# Altium schematic symbol library BiciMaps_3.SchLib: 26 symbols
Pins are listed as number, name and electrical type; pins without a type are passive.

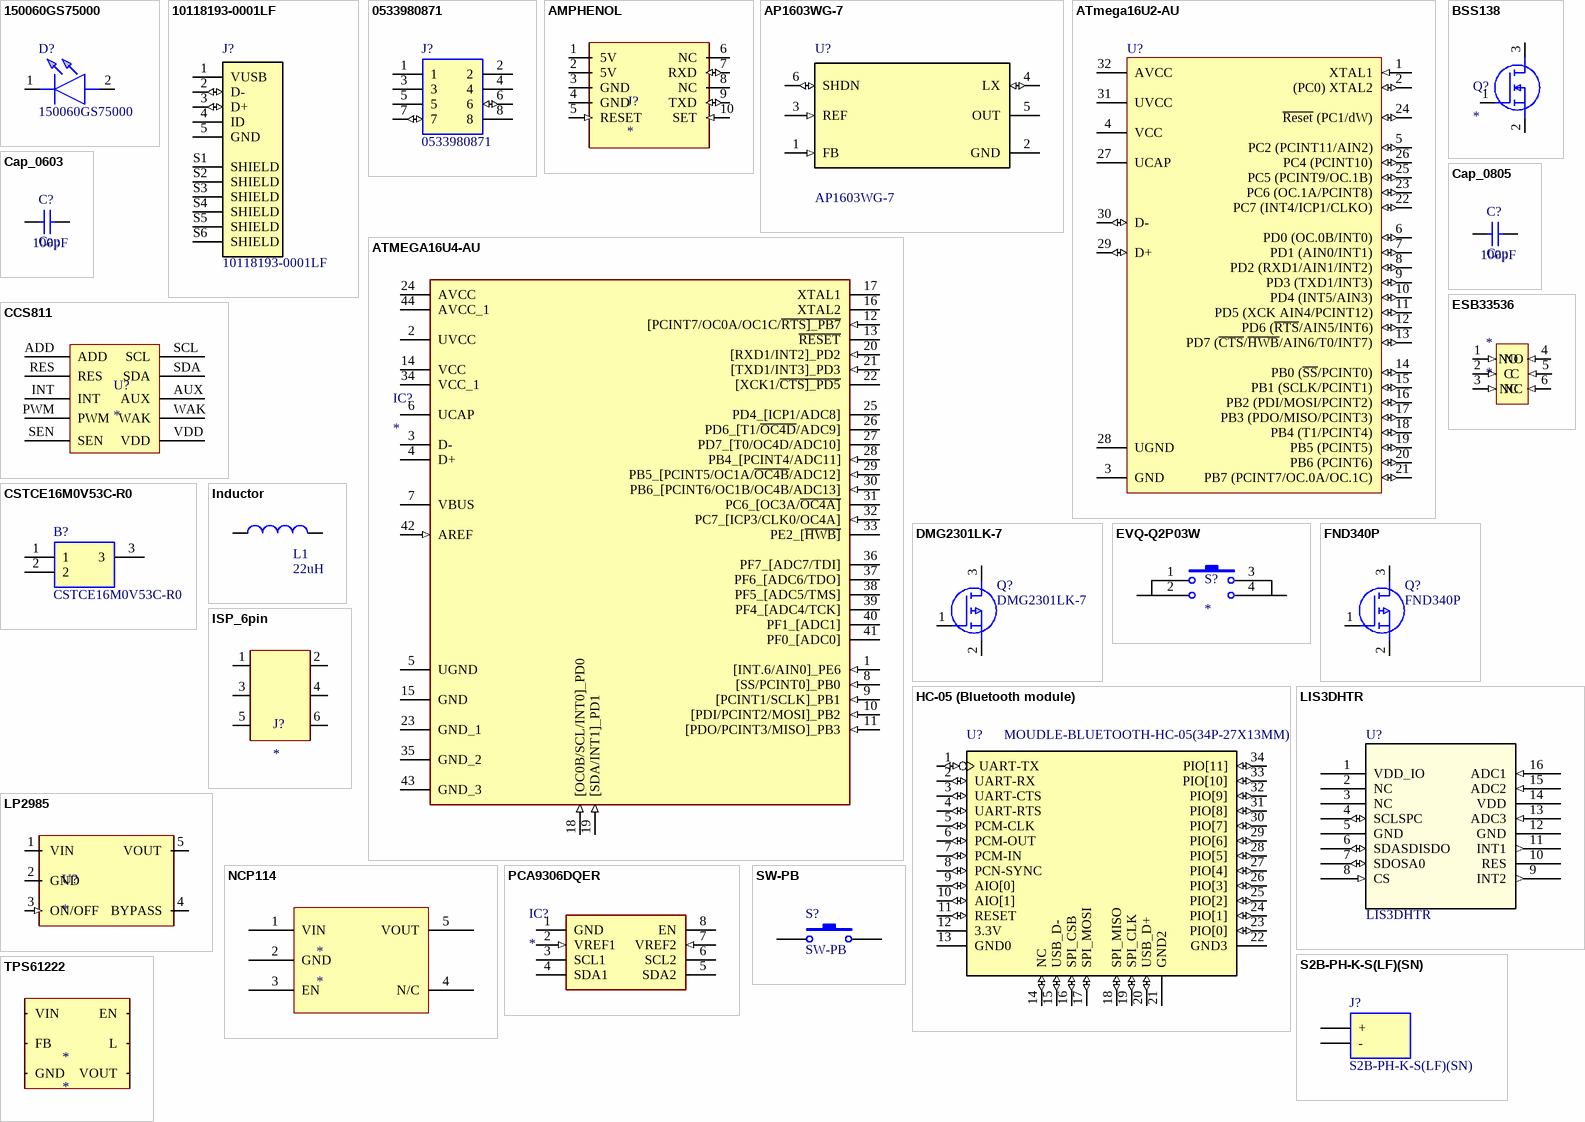
[diagram p0: symbols 150060GS75000 to TPS61222]

## 150060GS75000
designator D?
Wurth Elektronik WL-SMCW 520 nm Green LED, 1608 (0603) Clear SMD package; Geometry.Height: 0.8mm; Manufacturer_Name: Wurth Elektronik; Manufacturer_Part_Number: 150060GS75000; RS Part Number: 8154209P; RS Price/Stock: http://uk.rs-online.com/web/p/products/8154209P; Arrow Part Number: 150060GS75000; Arrow Price/Stock: http://uk.rs-online.com/web/p/products/8154209P; Datasheet Link: https://componentsearchengine.com/Datasheets/2/150060GS75000.pdf
footprint LEDC1608X80N
pins: 1 K, 2 A

## 10118193-0001LF
designator J?
Single Port 5 Contact Shielded SMT MICRO USB B-Type Receptacle; MF: Amphenol FCI; Availability: Unavailable; Package: None; Price: None; SnapEDA_Link: https://www.snapeda.com/parts/10118193-0001LF/Amphenol%20FCI/view-part/?ref=snap; MP: 10118193-0001LF; Value: *
footprint FCI_10118193-0001LF_10118193-0001LF(Primary)
pins: 1 VUSB, 2 D- (io), 3 D+ (io), 4 ID, 5 GND (power), S1 SHIELD, S2 SHIELD, S3 SHIELD, S4 SHIELD, S5 SHIELD, S6 SHIELD

## 0533980871
designator J?
CONN HEADER 8POS 1.25MM VERT SMD; Manufacturer_Name: Molex; Manufacturer_Part_Number: 0533980871; RS Part Number: *; RS Price/Stock: *; Arrow Part Number: 0533980871; Arrow Price/Stock: https://www.arrow.com/en/products/0533980871/molex; Datasheet Link: https://www.molex.com/pdm_docs/sd/533980871_sd.pdf
footprint 53398-0871
pins: 1, 2 (power), 3, 4, 5, 6 (io), 7 (io), 8 (power)

## AMPHENOL
designator J?
footprint AMPHENOL CONECTOR - duplicate
footprint PM SENSOR
pins: 1 5V (power), 2 5V (power), 3 GND (power), 4 GND (power), 5 RESET (in), 6 NC, 7 RXD (io), 8 NC, 9 TXD (io), 10 SET (in)

## AP1603WG-7
designator U?
Voltage regulator; PMIC; 0.2A; SOT26; SMD; boost; -40Ã·85Â°C; 150kHz; MF: Diodes Inc.; Package: SOT-23-6 Diodes Inc.; MP: AP1603WG-7; Digi-Key_Purchase_URL: https://www.digikey.es/product-detail/en/diodes-incorporated/AP1603WG-7/AP1603WG-7DICT-ND/8545962?utm_source=snapeda&utm_medium=aggregator&utm_campaign=symbol; Digi-Key_Part_Number: AP1603WG-7DICT-ND; SnapEDA_Link: https://www.snapeda.com/parts/AP1603WG-7/Diodes%20Inc./view-part/?ref=snap; Value: *
footprint SOT95P280X145-6N
pins: 1 FB (in), 2 GND (power), 3 REF (in), 4 LX (io), 5 OUT (power), 6 SHDN (io)

## ATmega16U2-AU
designator U?
8-bit AVR Microcontroller, 2.7-5.5V, 16KB Flash, 512 Bytes EEPROM, 512 Bytes SRAM, 32-pin TQFP, Industrial Grade (-40°C to 85°C); Published: 1-Apr-2010; DatasheetVersion: revC, Dec-2009; PackageVersion: revB, Oct-2001; PackageReference: 32A; Publisher: Altium Limited; PackageDescription: 32-Lead, 7x7x1.0 mm Body, 0.8mm Lead Pitch, Thin Profile Plastic Quad Flat Package (TQFP); Supplier 1: Digi-Key; Supplier Part Number 1: ATMEGA16U2-AU-ND; Supplier 2: Mouser; Supplier Part Number 2: 556-ATMEGA16U2-AU; Code_JEDEC: MS-026-ABA; ComponentLink1Description: Manufacturer Link; ComponentLink1URL: http://www.atmel.com/products/avr/default.asp?; ComponentLink2Description: ATmega8U2/16U2/32U2 Datasheet; ComponentLink2URL: http://www.atmel.com/dyn/resources/prod_documents/doc7799.pdf; ComponentLink3Description: ATmega8U2/16U2/32U2 Summary; ComponentLink3URL: http://www.atmel.com/dyn/resources/prod_documents/7799S.pdf; ComponentLink4Description: Atmel.com Home; ComponentLink4URL: http://www.atmel.com
footprint 32A_N (Thin QFP, 32-Leads, Body 7x7mm, Pitch 0.8mm, IPC Medium Density)
footprint 32A_L (Thin QFP, 32-Leads, Body 7x7mm, Pitch 0.8mm, IPC High Density)
footprint 32A_M (Thin QFP, 32-Leads, Body 7x7mm, Pitch 0.8mm, IPC Low Density)
footprint 32A_N_MEGA (Thin QFP, 32-Leads, Body 7x7mm, Pitch 0.8mm, IPC Medium Density)
pins: 1 XTAL1 (in), 2 (PC0) XTAL2 (io), 3 GND (power), 4 VCC (power), 5 PC2 (PCINT11/AIN2) (io), 6 PD0 (OC.0B/INT0) (io), 7 PD1 (AIN0/INT1) (io), 8 PD2 (RXD1/AIN1/INT2) (io), 9 PD3 (TXD1/INT3) (io), 10 PD4 (INT5/AIN3) (io), 11 PD5 (XCK AIN4/PCINT12) (io), 12 PD6 (~{RTS}/AIN5/INT6) (io), 13 PD7 (~{CTS}/~{HWB}/AIN6/T0/INT7) (io), 14 PB0 (~{SS}/PCINT0) (io), 15 PB1 (SCLK/PCINT1) (io), 16 PB2 (PDI/MOSI/PCINT2) (io), 17 PB3 (PDO/MISO/PCINT3) (io), 18 PB4 (T1/PCINT4) (io), 19 PB5 (PCINT5) (io), 20 PB6 (PCINT6) (io), 21 PB7 (PCINT7/OC.0A/OC.1C) (io), 22 PC7 (INT4/ICP1/CLKO) (io), 23 PC6 (OC.1A/PCINT8) (io), 24 ~{Reset} (PC1/dW) (io), 25 PC5 (PCINT9/OC.1B) (io), 26 PC4 (PCINT10) (io), 27 UCAP (power), 28 UGND (power), 29 D+ (io), 30 D- (io), 31 UVCC (power), 32 AVCC (power)

## ATMEGA16U4-AU
designator IC?
Integrated Circuit; Manufacturer_Name: Microchip; Manufacturer_Part_Number: ATMEGA16U4-AU; Datasheet Link: http://www.atmel.com/images/atmel-7766-8-bit-avr-atmega16u4-32u4_summary.pdf; Height: 1.2mm
footprint ATMEGA 16U4
pins: 1 [INT.6/AIN0]_PE6 (in), 2 UVCC (power), 3 D-, 4 D+, 5 UGND (power), 6 UCAP, 7 VBUS, 8 [SS/PCINT0]_PB0 (in), 9 [PCINT1/SCLK]_PB1 (in), 10 [PDI/PCINT2/MOSI]_PB2 (in), 11 [PDO/PCINT3/MISO]_PB3 (in), 12 [PCINT7/OC0A/OC1C/~{RTS]_PB7} (in), 13 ~{RESET}, 14 VCC (power), 15 GND (power), 16 XTAL2, 17 XTAL1, 18 [OC0B/SCL/INT0]_PD0 (in), 19 [SDA/INT1]_PD1 (in), 20 [RXD1/INT2]_PD2 (in), 21 [TXD1/INT3]_PD3 (in), 22 [XCK1/~{CTS]_PD5}, 23 GND_1 (power), 24 AVCC (power), 25 PD4_[ICP1/ADC8], 26 PD6_[T1/~{OC4D}/ADC9], 27 PD7_[T0/OC4D/ADC10], 28 PB4_[PCINT4/ADC11] (in), 29 PB5_[PCINT5/OC1A/~{OC4B}/ADC12] (in), 30 PB6_[PCINT6/OC1B/OC4B/ADC13] (in), 31 PC6_[OC3A/~{OC4A]}, 32 PC7_[ICP3/CLK0/OC4A] (in), 33 PE2_[~{HWB]}, 34 VCC_1 (power), 35 GND_2 (power), 36 PF7_[ADC7/TDI], 37 PF6_[ADC6/TDO], 38 PF5_[ADC5/TMS], 39 PF4_[ADC4/TCK], 40 PF1_[ADC1], 41 PF0_[ADC0], 42 AREF (in), 43 GND_3 (power), 44 AVCC_1 (power)

## BSS138
designator Q?
MOSFET (N-Channel); Manufacturer_Name: ON Semiconductor; Manufacturer_Part_Number: BSS138; Datasheet Link: https://www.onsemi.com/pub/Collateral/BSS138-D.PDF; Height: 1.2mm; Mouser Part Number: 512-BSS138; Mouser Price/Stock: https://www.mouser.com/Search/Refine.aspx?Keyword=512-BSS138; RS Part Number: 6710324P; RS Price/Stock: http://uk.rs-online.com/web/p/products/6710324P
footprint SOT96P240X110-3N
pins: 1 G, 2 S, 3 D

## Cap_0603
designator C?, comment Cap  value 100pF
Capacitor; Published: 8-Jun-2000; LatestRevisionDate: 17-Jul-2002; LatestRevisionNote: Re-released for DXP Platform.; PackageReference: RAD-0.3; Publisher: Altium Limited; PackageDescription: Radial Cap, Thru-Hole; 2 Leads; 0.3 in Pin Spacing
simulation model CAP (Capacitor)
signal-integrity model Cap
footprint J1-0603 (Footprint not found)
pins: 1, 2

## Cap_0805
designator C?, comment Cap  value 100pF
Capacitor; Published: 8-Jun-2000; LatestRevisionDate: 17-Jul-2002; LatestRevisionNote: Re-released for DXP Platform.; PackageReference: RAD-0.3; Publisher: Altium Limited; PackageDescription: Radial Cap, Thru-Hole; 2 Leads; 0.3 in Pin Spacing
simulation model CAP (Capacitor)
signal-integrity model Cap
footprint C0805 (Footprint not found)
pins: 1, 2

## CCS811
designator U?
footprint CCS811 (CCS811 IAQ measurer)
pins: ADD, AUX, INT, PWM, RES, SCL, SDA, SEN, VDD, WAK

## CSTCE16M0V53C-R0
designator B?
SMD Ceramic Resonator 16 MHz 15PF CSTCE16M0V53C-R0, Ceramic Resonator, 16MHz Expander 15pF, 4-Pin, 3.2 x 1.3 x 0.9mm; Manufacturer_Name: Murata Electronics; Geometry.Height: 1mm; Mouser Part Number: 81-CSTCE16M0V53C-R0; Manufacturer_Part_Number: CSTCE16M0V53C-R0; Datasheet Link: https://componentsearchengine.com/Datasheets/1/CSTCE16M0V53C-R0.pdf
footprint CSTCE16M0V53CR0
pins: 1, 2 (power), 3

## DMG2301LK-7
designator Q?
MOSFET MOSFET BVDSS: 8V-24V; Manufacturer_Name: Diodes Inc.; Geometry.Height: 1.1mm; Manufacturer_Part_Number: DMG2301LK-7; RS Part Number: *; RS Price/Stock: *; Arrow Part Number: DMG2301LK-7; Arrow Price/Stock: https://www.arrow.com/en/products/dmg2301lk-7/diodes-incorporated; Datasheet Link: https://componentsearchengine.com/Datasheets/1/DMG2301LK-7.pdf
footprint SOT96P240X110-3N
pins: 1 G, 2 S, 3 D

## ESB33536
designator *
footprint ESB33_pushbutton
pins: 1 NO (in), 2 C (in), 3 NC (in), 4 NO (in), 5 C (in), 6 NC (in)

## EVQ-Q2P03W
designator S?
Tactile 3.1 heigth; Manufacturer_Part_Number: EVQP2602W; Vendor: Panasonic; Built_By: EMA_UL_Team; C: Copyright (C) 2015 Accelerated Designs. All rights reserved; RefDes: RefDes; Type: DEV; Value: Value
footprint EVQ-Q2P03W
pins: 1, 2 1, 3, 4

## FND340P
designator Q?
MOSFET MOSFET BVDSS: 8V-24V; Manufacturer_Name: Diodes Inc.; Manufacturer_Part_Number: DMG2301LK-7; Geometry.Height: 1.1mm; RS Part Number: *; RS Price/Stock: *; Arrow Part Number: DMG2301LK-7; Arrow Price/Stock: https://www.arrow.com/en/products/dmg2301lk-7/diodes-incorporated; Datasheet Link: https://componentsearchengine.com/Datasheets/1/DMG2301LK-7.pdf
footprint SOT-23
pins: 1 G, 2 S, 3 D

## HC-05 (Bluetooth module)
designator U?, comment MOUDLE-BLUETOOTH-HC-05(34P-27X13MM)
Modulo bluetooth, 34 pin; MF: Texas Instruments; MP: HC05; Package: None; Availability: Unavailable; Price: None; SnapEDA_Link: https://www.snapeda.com/parts/HC05/Texas%20Instruments/view-part/?ref=snap; Value: *
footprint HC-05
pins: 1 UART-TX (io), 2 UART-RX (io), 3 UART-CTS (io), 4 UART-RTS (io), 5 PCM-CLK (io), 6 PCM-OUT (io), 7 PCM-IN (io), 8 PCN-SYNC (io), 9 AIO[0] (io), 10 AIO[1] (io), 11 RESET (io), 12 3.3V (power), 13 GND0 (power), 14 NC (io), 15 USB_D- (io), 16 SPI_CSB (io), 17 SPI_MOSI (io), 18 SPI_MISO (io), 19 SPI_CLK (io), 20 USB_D+ (io), 21 GND2 (power), 22 GND3 (power), 23 PIO[0] (io), 24 PIO[1] (io), 25 PIO[2] (io), 26 PIO[3] (io), 27 PIO[4] (io), 28 PIO[5] (io), 29 PIO[6] (io), 30 PIO[7] (io), 31 PIO[8] (io), 32 PIO[9] (io), 33 PIO[10] (io), 34 PIO[11] (io)

## Inductor
designator L1  value 22uH  (hidden comment: Inductor)
Code_IEC: 1005; Published: 8-Jun-2000; LatestRevisionDate: 29-May-2009; LatestRevisionNote: IPC-7351 Footprint Added.; PackageReference: 0402-A; Publisher: Altium Limited; PackageDescription: Chip Inductor; Code_JEITA: 0402; Supplier 1: Digi-Key; Supplier Part Number 1: 445-17069-6-ND
footprint 0603 (Chip Inductor, Body 0.6x0.3mm, IPC High Density)
simulation model INDUCTOR (Inductor)
signal-integrity model Inductor
footprint J1-0603 (Footprint not found)
pins: 1, 2

## ISP_6pin
designator J?
footprint ISP_6PIN
pins: 1 (io), 2 (power), 3 (io), 4 (io), 5 (io), 6 (power)

## LIS3DHTR
designator U?
Imported; Vendor: STMicroelectronics; Built_By: EMA_UL_Team; C: Copyright (C) 2015 Accelerated Designs. All rights reserved; Manufacturer_Part_Number: LIS3DHTR; RefDes: RefDes; Type: DEV; Value: Value
footprint LGA-16_3x3x1mm
footprint LIS3DHTR
pins: 1 VDD_IO (power), 2 NC, 3 NC, 4 SCLSPC (io), 5 GND (power), 6 SDASDISDO (io), 7 SDOSA0 (io), 8 CS (in), 9 INT2 (out), 10 RES, 11 INT1 (out), 12 GND (power), 13 ADC3 (in), 14 VDD (power), 15 ADC2 (in), 16 ADC1 (in)

## LP2985
designator U?
footprint LP2985
pins: 1 VIN (power), 2 GND (power), 3 ON/OFF (in), 4 BYPASS (power), 5 VOUT (power)

## NCP114
designator *
footprint NCP114-UDFN4
footprint NCP114-TSOP5
pins: 1 VIN, 2 GND, 3 EN, 4 N/C, 5 VOUT

## PCA9306DQER
designator IC?
Integrated Circuit; Manufacturer_Name: Texas Instruments; Manufacturer_Part_Number: PCA9306DQER; Datasheet Link: http://www.ti.com/lit/ds/symlink/pca9306.pdf; Height: 0.4mm; Mouser Part Number: 595-PCA9306DQER; Mouser Price/Stock: https://www.mouser.com/Search/Refine.aspx?Keyword=595-PCA9306DQER; RS Part Number: 7300622P; RS Price/Stock: http://uk.rs-online.com/web/p/products/7300622P
footprint SON35P100X140X40-8N
footprint PCA9360
pins: 1 GND (power), 2 VREF1 (in), 3 SCL1, 4 SDA1, 5 SDA2, 6 SCL2, 7 VREF2 (in), 8 EN

## S2B-PH-K-S(LF)(SN)
designator J?
PH-2.0mm Header side entry 2 way JST PH Series, Series Number S2B, 2mm Pitch 2 Way 1 Row Right Angle PCB Header, Through Hole Termination, 2A; Manufacturer_Name: JST (JAPAN SOLDERLESS TERMINALS); Geometry.Height: 6mm; Manufacturer_Part_Number: S2B-PH-K-S(LF)(SN); RS Part Number: 1724889; RS Price/Stock: http://uk.rs-online.com/web/p/products/1724889; Arrow Part Number: S2B-PH-K-S(LF)(SN); Arrow Price/Stock: https://www.arrow.com/en/products/s2b-ph-k-s-lf-sn/jst-manufacturing; Datasheet Link: http://uk.rs-online.com/web/p/products/8201494
footprint S2B_Lipo_Header
pins: 1 + (power), 2 - (power)

## SW-PB
designator S?
Switch; Published: 24-Mar-1999; LatestRevisionDate: 17-Jul-2002; LatestRevisionNote: Re-released for DXP Platform.; PackageReference: SPST-2; Publisher: Altium Limited; PackageDescription: Switch; 2 Leads
footprint SPST-2 (Switch; 2 Leads)
pins: 1, 2

## TPS61222
designator *
footprint TPS61222DCK
pins: EN (in), FB (in), GND (power), L (in), VIN (power), VOUT (power)